# Altium footprint library SDC-LE-A3L.PcbLib: 1 footprints
Each footprint in its own frame and in the unit in brackets; x right, y up, seen from the top. Pads: shape width x height; smd on the part's side, far side on the other; paste and mask are expansions set on the pad; w line width, h text height; cw(c..) or ccw(c..) is an arc to the next point about the centre after c.
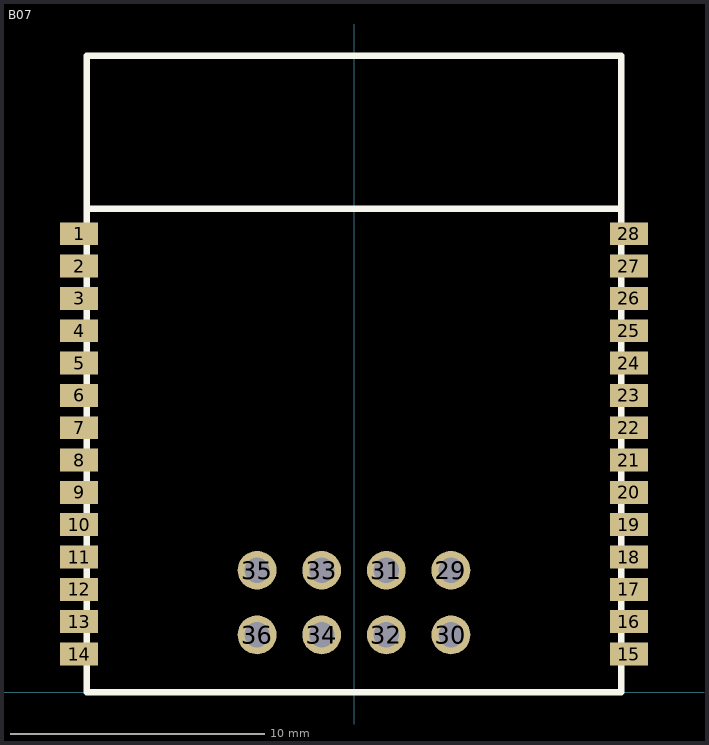
[diagram p0: the footprint, top view; thin cyan lines are the x and y axes]

## B07 [mm]
pads (36):
  rect 1.5x0.9 smd: 1(-10.8,18.01) 2(-10.8,16.74) 3(-10.8,15.47) 4(-10.8,14.2) 5(-10.8,12.93) 6(-10.8,11.66) 7(-10.8,10.39) 8(-10.8,9.12) 9(-10.8,7.85) 10(-10.8,6.58) 11(-10.8,5.31) 12(-10.8,4.04) 13(-10.8,2.77) 14(-10.8,1.5) 15(10.8,1.5) 16(10.8,2.77) 17(10.8,4.04) 18(10.8,5.31) 19(10.8,6.58) 20(10.8,7.85) 21(10.8,9.12) 22(10.8,10.39) 23(10.8,11.66) 24(10.8,12.93) 25(10.8,14.2) 26(10.8,15.47) 27(10.8,16.74) 28(10.8,18.01)
  round 1.524 hole 1: 29(3.81,4.79) 30(3.81,2.25) 31(1.27,4.79) 32(1.27,2.25) 33(-1.27,4.79) 34(-1.27,2.25) 35(-3.81,4.79) 36(-3.81,2.25)
Top Overlay:
  lines w0.254: -10.5,19 10.5,19 ; -10.5,0 10.5,0 10.5,25 -10.5,25 -10.5,0